# EAGLE library part GEN_24_EP (library bschulz)
Generic 20 Pin Package for Breakout Boards
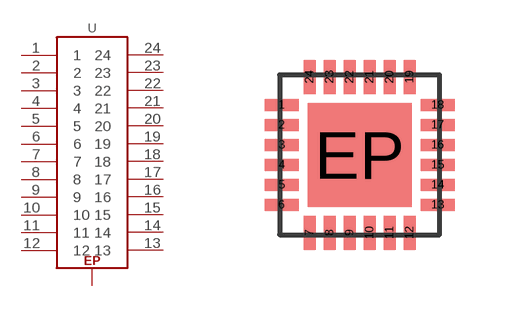
[diagram p169: symbol with the pads of QFN24; footprint QFN24]

Designator prefix U

## GEN_24_EPQFN-24  [QFN24]
1  1
2  2
3  3
4  4
5  5
6  6
7  7
8  8
9  9
10  10
11  11
12  12
13  13
14  14
15  15
16  16
17  17
18  18
19  19
20  20
21  21
22  22
23  23
24  24
EP  EP  pas

## Footprint QFN24 (pad centres in mm)
24 pin QFN package, 4x4 mm size, 0.5mm pitch Reference <http://ww1.microchip.com/downloads/en/devicedoc/22103a.pdf> Note: 0.5mm vs 0.65mm pitch discrepancy between land pattern and package drawing!
smd 0.85 x 0.3: 1 -1.95,1.25; 2 -1.95,0.75; 3 -1.95,0.25; 4 -1.95,-0.25; 5 -1.95,-0.75; 6 -1.95,-1.25; 13 1.95,-1.25; 14 1.95,-0.75; 15 1.95,-0.25; 16 1.95,0.25; 17 1.95,0.75; 18 1.95,1.25
smd 0.3 x 0.85: 7 -1.25,-1.95; 8 -0.75,-1.95; 9 -0.25,-1.95; 10 0.25,-1.95; 11 0.75,-1.95; 12 1.25,-1.95; 19 1.25,1.95; 20 0.75,1.95; 21 0.25,1.95; 22 -0.25,1.95; 23 -0.75,1.95; 24 -1.25,1.95
smd 2.6 x 2.6: EP 0,0